# Altium footprint library SMT0603.PcbLib: 6 footprints
Each footprint in its own frame and in the unit in brackets; x right, y up, seen from the top. Pads: shape width x height; smd on the part's side, far side on the other; paste and mask are expansions set on the pad; w line width, h text height; cw(c..) or ccw(c..) is an arc to the next point about the centre after c.
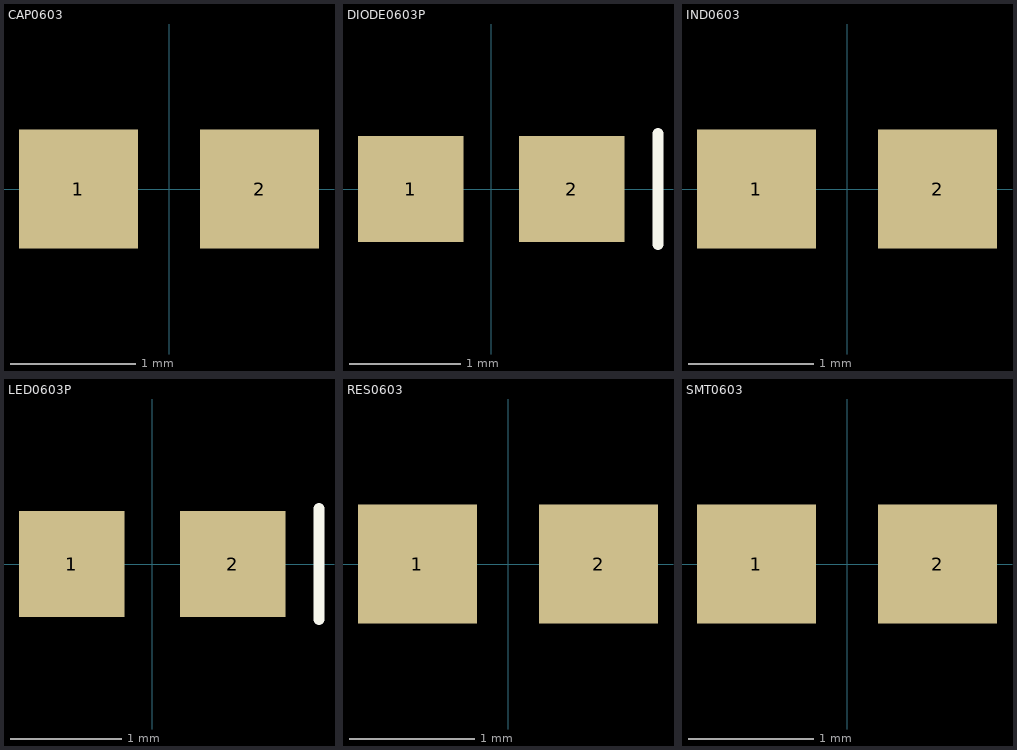
[diagram p0: the footprints below, top view; thin cyan lines are the x and y axes]

## CAP0603 [mm]
height 0.4
pads (2):
  rect 0.95x0.95 smd: 1(-0.725,0) 2(0.725,0)
3D body "CAP-0603.step": height 0.57, standoff 0, extent -0.8,-0.41 0.8,0.41

## DIODE0603P [mm]
height 0.4
pads (2):
  rect 0.95x0.95 smd: 1(-0.725,0) 2(0.725,0)
Top Overlay:
  lines w0.1: 1.5,-0.5 1.5,0.5

## IND0603 [mm]
height 0.4
pads (2):
  rect 0.95x0.95 smd: 1(-0.725,0) 2(0.725,0)
3D body "IND-0603.step": height 1, standoff 0, extent -0.8,-0.4 0.8,0.4

## LED0603P [mm]
height 0.4
pads (2):
  rect 0.95x0.95 smd: 1(-0.725,0) 2(0.725,0)
Top Overlay:
  lines w0.1: 1.5,-0.5 1.5,0.5
3D body "LED-0603-GREEN.STEP": height 0.72, standoff -0.03, extent -0.801,-0.4 0.81,0.4

## RES0603 [mm]
height 0.4
pads (2):
  rect 0.95x0.95 smd: 1(-0.725,0) 2(0.725,0)
3D body "RES-0603.step": height 0.3, standoff 0, extent -0.8,-0.4 0.8,0.4

## SMT0603 [mm]
height 0.4
pads (2):
  rect 0.95x0.95 smd: 1(-0.725,0) 2(0.725,0)
3D body: height 2.65, standoff 0, extent -1.025,-0.45 1.025,0.45